# Altium schematic symbol library SparkFun-Sensors.SCHLIB: 77 symbols
Pins are listed as number, name and electrical type; pins without a type are passive.

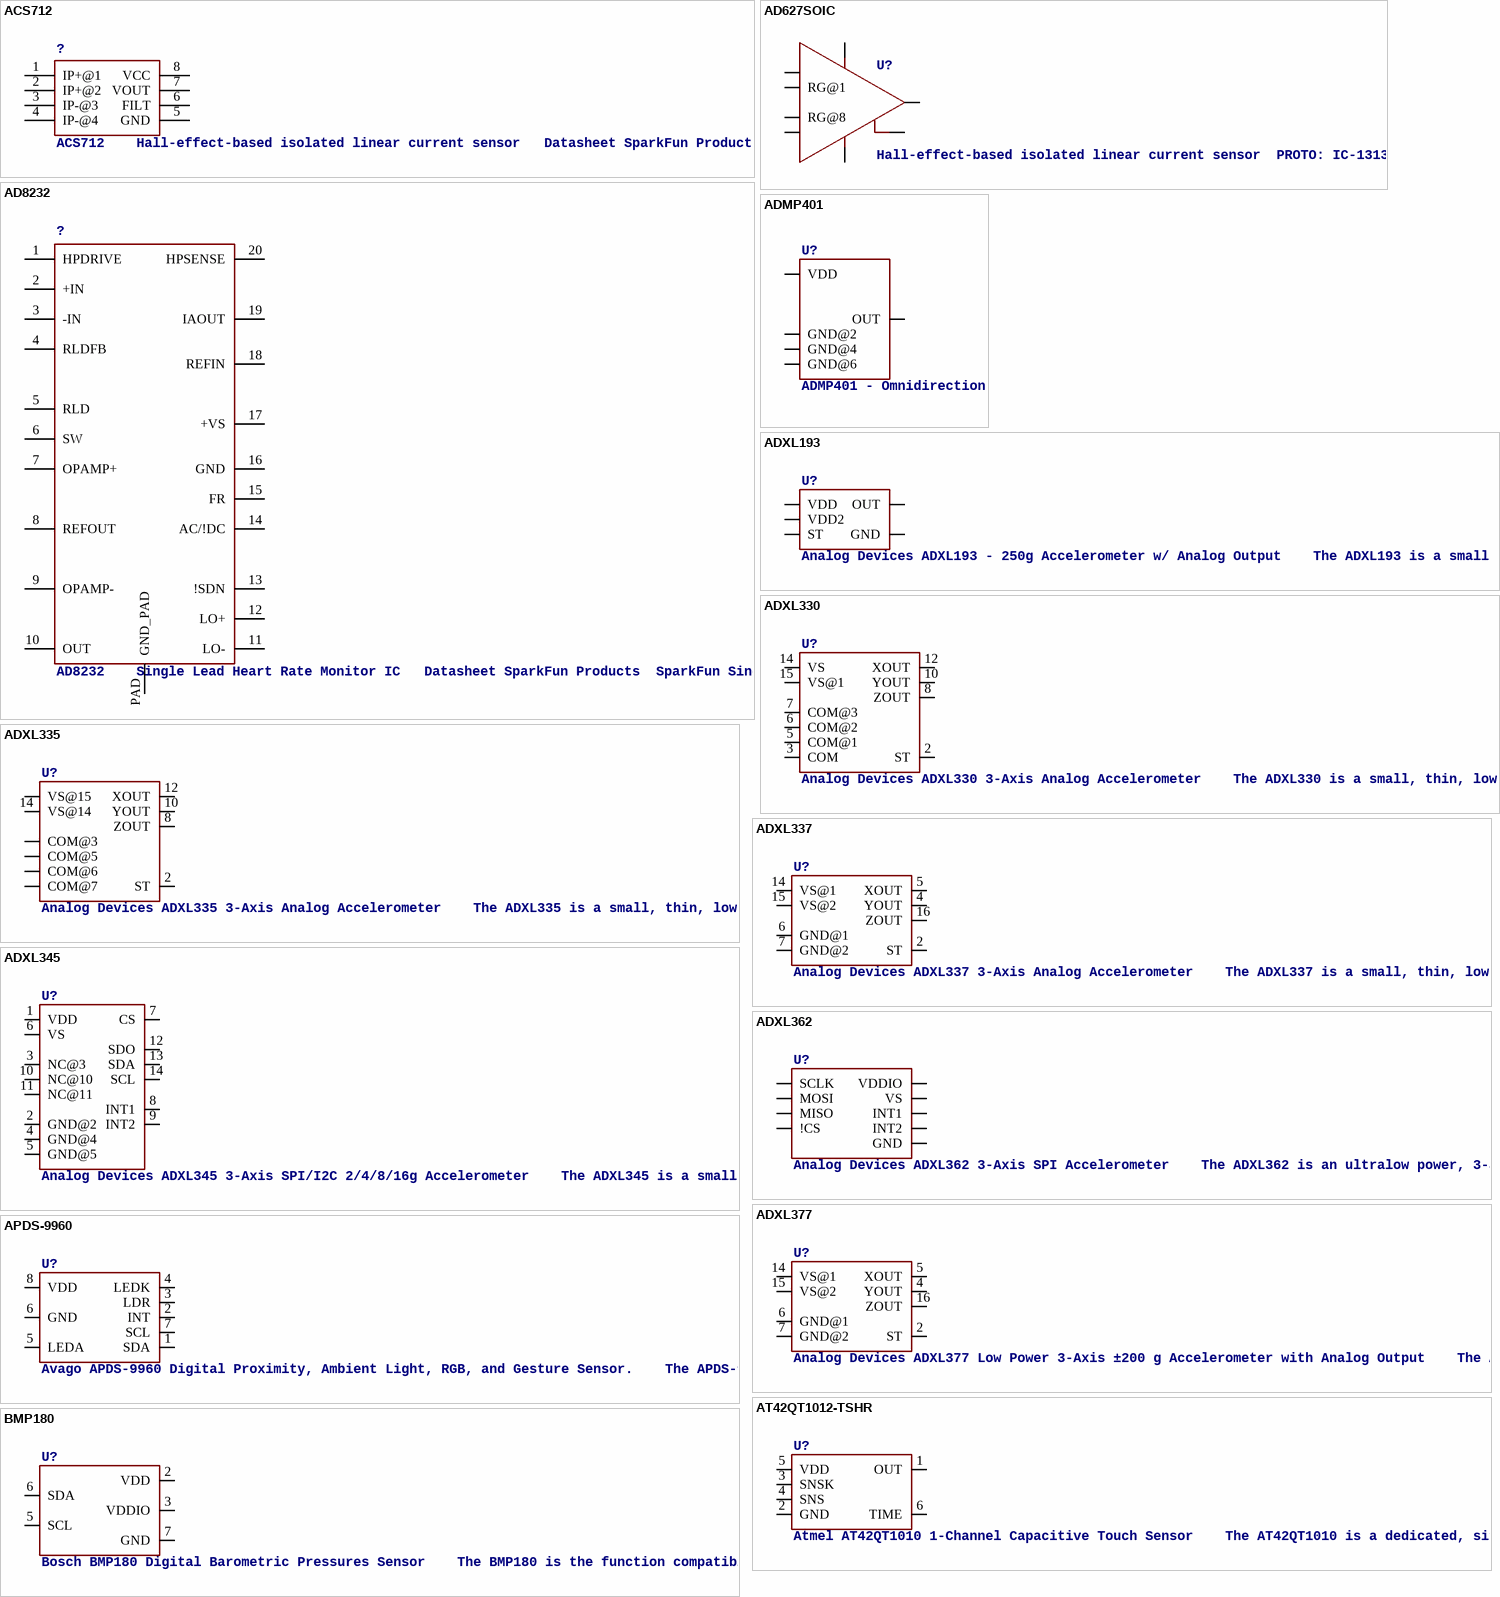
[diagram p0: symbols ACS712 to BMP180]

## ACS712
designator ?, comment ACS712    Hall-effect-based isolated linear current sensor   Datasheet SparkFun Products  SparkFun Low Current Sensor Breakout - ACS712 (SEN-08883)
PROD_ID: IC-08964
footprint SO08
pins: 1 IP+@1, 2 IP+@2, 3 IP-@3, 4 IP-@4, 5 GND, 6 FILT, 7 VOUT, 8 VCC

## AD627SOIC
designator U?, comment Hall-effect-based isolated linear current sensor  PROTO: IC-13132
PROD_ID: IC-13132
footprint SO08-TIGHT
pins: 1 RG@1, 2 IN-, 3 IN+, 4 VS-, 5 REF, 6 OUTPUT, 7 VS+, 8 RG@8

## AD8232
designator ?, comment AD8232    Single Lead Heart Rate Monitor IC   Datasheet SparkFun Products  SparkFun Single Lead Heart Rate Monitor - AD8232 (SEN-12650)
PROD_ID: IC-11886
footprint LFCSP_20
pins: 1 HPDRIVE, 2 +IN, 3 -IN, 4 RLDFB, 5 RLD, 6 SW, 7 OPAMP+, 8 REFOUT, 9 OPAMP-, 10 OUT, 11 LO-, 12 LO+, 13 !SDN, 14 AC/!DC, 15 FR, 16 GND, 17 +VS, 18 REFIN, 19 IAOUT, 20 HPSENSE, PAD GND_PAD

## ADMP401
designator U?, comment ADMP401 - Omnidirection Bottom-Port MEMS Microphone    The ADMP401 is a high quality, low cost, low power analog output bottom-ported omnidirectional MEMS microphone. The ADMP401 consists of a MEMS microphone element, an impedance converter, and an output amplifier. The ADMP401 sensitivity specification makes it an excellent choice for both near field and far field applications.   Datasheet SparkFun Products  SparkFun MEMS Microphone Breakout - INMP401 (ADMP401) (BOB-09868)  MEMS Microphone - INMP401 (ADMP401) (COM-10028)
PROD_ID: IC-09773
footprint ADMP401
pins: 1 OUT, 2 GND@2, 4 GND@4, 5 VDD, 6 GND@6

## ADXL193
designator U?, comment Analog Devices ADXL193 - 250g Accelerometer w/ Analog Output    The ADXL193 is a small (5 mm x 5 mm x 2 mm ceramic LCC package), low power (1.5 mA current at 5V), single axis high-g iMEMS® accelerometer designed to sense shock and vibration at g-ranges of ±120g or ±250g. Three models are available and include AD22282-A-R2 (±120g) and AD22283-B-R2 (±250g). These products are used in a variety of crash/impact detection applications which include automotive airbag crash detection systems as well as medical, industrial, and sports equipment.   Datasheet SparkFun Products    SparkFun Single Axis Accelerometer Breakout - ADXL193 (+/-250g) (SEN-09332)
PROD_ID: IC-09219
footprint LCC-8
pins: P$3 GND, P$4 ST, P$6 OUT, P$7 VDD, P$8 VDD2

## ADXL330
designator U?, comment Analog Devices ADXL330 3-Axis Analog Accelerometer    The ADXL330 is a small, thin, low power, complete 3-axis accelerometer with signal conditioned voltage outputs, all on a single monolithic IC. The product measures acceleration with a minimum full-scale range of ±3g. It can measure the static acceleration of gravity in tilt-sensing applications, as well as dynamic acceleration resulting from motion, shock, or vibration.   Datasheet SparkFun Products  Triple Axis Accelerometer Breakout - ADXL330 (SEN-00692)
PROD_ID: IC-08189
footprint LFCSP-16-4X4
pins: 2 ST, 3 COM, 5 COM@1, 6 COM@2, 7 COM@3, 8 ZOUT, 10 YOUT, 12 XOUT, 14 VS, 15 VS@1

## ADXL335
designator U?, comment Analog Devices ADXL335 3-Axis Analog Accelerometer    The ADXL335 is a small, thin, low power, complete 3-axis accelerometer with signal conditioned voltage outputs. The product measures acceleration with a minimum full-scale range of ±3 g. It can measure the static acceleration of gravity in tiltsensing applications, as well as dynamic acceleration resulting from motion, shock, or vibration.   Datasheet SparkFun Products  SparkFun Triple Axis Accelerometer Breakout - ADXL335 (SEN-09269)  Triple Axis Accelerometer - ADXL335 (SEN-09265)
PROD_ID: IC-08942; SF_ID: COM-09265
footprint LFCSP-16-4X4
pins: 2 ST, 3 COM@3, 5 COM@5, 6 COM@6, 7 COM@7, 8 ZOUT, 10 YOUT, 12 XOUT, 14 VS@14, 15 VS@15

## ADXL337
designator U?, comment Analog Devices ADXL337 3-Axis Analog Accelerometer    The ADXL337 is a small, thin, low power, complete 3-axis accelerometer with signal conditioned voltage outputs. The product measures acceleration with a minimum full-scale range of ±3g. It can measure the static acceleration of gravity in tiltsensing applications, as well as dynamic acceleration resulting from motion, shock, or vibration.   Datasheet SparkFun Products  SparkFun Triple Axis Accelerometer Breakout - ADXL337 (SEN-12786)
PROD_ID: IC-12011
footprint LFCSP-16-3X3
pins: 2 ST, 4 YOUT, 5 XOUT, 6 GND@1, 7 GND@2, 14 VS@1, 15 VS@2, 16 ZOUT

## ADXL345
designator U?, comment Analog Devices ADXL345 3-Axis SPI/I2C 2/4/8/16g Accelerometer    The ADXL345 is a small, thin, low power, 3-axis accelerometer with high resolution (13-bit) measurement at up to ±16g. Digital output data is formatted as 16-bit twos complement and is accessible through either a SPI (3- or 4-wire) or I2C digital interface.   Datasheet SparkFun Products  SparkFun Triple Axis Accelerometer Breakout - ADXL345 (SEN-09836)  Triple Axis Accelerometer - ADXL345 (SEN-09045)  SparkFun 6 Degrees of Freedom IMU Digital Combo Board - ITG3200/ADXL345 (SEN-10121)
PROD_ID: IC-09097; SF_ID: SEN-09045
footprint LGA-14
pins: 1 VDD, 2 GND@2, 3 NC@3, 4 GND@4, 5 GND@5, 6 VS, 7 CS, 8 INT1, 9 INT2, 10 NC@10, 11 NC@11, 12 SDO, 13 SDA, 14 SCL

## ADXL362
designator U?, comment Analog Devices ADXL362 3-Axis SPI Accelerometer    The ADXL362 is an ultralow power, 3-axis MEMS accelerometer that consumes less than 2 μA at a 100 Hz output data rate and 270 nA when in motion triggered wake-up mode. Unlike accelerometers that use power duty cycling to achieve low power consumption, the ADXL362 does not alias input signals by undersampling; it samples the full bandwidth of the sensor at all data rates.   Datasheet SparkFun Products  SparkFun Triple Axis Accelerometer Breakout - ADXL362 (SEN-11446)
PROD_ID: IC-11297
footprint LGA-16-3X2.5
pins: P$1 VDDIO, P$4 SCLK, P$6 MOSI, P$7 MISO, P$8 !CS, P$9 INT2, P$11 INT1, P$12 P$13 P$16 GND, P$14 VS

## ADXL377
designator U?, comment Analog Devices ADXL377 Low Power 3-Axis ±200 g Accelerometer with Analog Output    The ADXL377 is a small, thin, low power, complete 3-axis accelerometer with signal conditioned voltage outputs. The ADXL377 measures acceleration resulting from motion, shock, or vibration with a typical full-scale range of ±200g.   Datasheet SparkFun Products  SparkFun Triple Axis Accelerometer Breakout - ADXL377 (SEN-12803)
PROD_ID: IC-12027
footprint LFCSP-16-3X3
pins: 2 ST, 4 YOUT, 5 XOUT, 6 GND@1, 7 GND@2, 14 VS@1, 15 VS@2, 16 ZOUT

## APDS-9960
designator U?, comment Avago APDS-9960 Digital Proximity, Ambient Light, RGB, and Gesture Sensor.    The APDS-9960 offers ambient light and color measuring, proximity detection, and touchless gesture sensing. It features UV and IR blocking filters, four separate diodes sensitive to different directions, and an I2C compatible interface.   Datasheet SparkFun Products  SparkFun RGB and Gesture Sensor - APDS-9960 (SEN-12787)
PROD_ID: SEN-12005
footprint APDS-9960
pins: 1 SDA, 2 INT, 3 LDR, 4 LEDK, 5 LEDA, 6 GND, 7 SCL, 8 VDD

## AT42QT1012-TSHR
designator U?, comment Atmel AT42QT1010 1-Channel Capacitive Touch Sensor    The AT42QT1010 is a dedicated, single-button capacitive sense chip. The chip handles monitoring a conductive area for touch. As long as a touch (e.g. from a finger) is detected, the AT42QT1010 keeps the output line high. Otherwise, the line is kept low.   Datasheet SparkFun Products  SparkFun Capacitive Touch Breakout - AT42QT1010 (SEN-12041)
PROD_ID: IC-11778
footprint SOT23-6
pins: 1 OUT, 2 GND, 3 SNSK, 4 SNS, 5 VDD, 6 TIME

## BMP180
designator U?, comment Bosch BMP180 Digital Barometric Pressures Sensor    The BMP180 is the function compatible successor of the BMP085, a new generation of high precision digital pressure sensors for consumer applications.   The ultra-low power, low voltage electronics of the BMP180 is optimized for use in mobile phones, PDAs, GPS navigation devices and outdoor equipment. With a low altitude noise of merely 0.25m at fast conversion time, the BMP180 offers superior performance. The I2C interface allows for easy system integration with a microcontroller. The BMP180 is based on piezo-resistive technology for EMC robustness, high accuracy and linearity as well as long term stability.   Web page: http://www.bosch-sensortec.com/en/homepage/products_3/environmental_sensors_1/bmp180_1/bmp180 Datasheet:  http://ae-bst.resource.bosch.com/media/products/dokumente/bmp180/BST-BMP180-DS000-09.pdf SparkFun Products  Barometric Pressure Sensor - BMP180 (COM-11823)  SparkFun Barometric Pressure Sensor Breakout - BMP180 (SEN-11824)
PROD_ID: IC-11600; SF_ID: 11823
footprint BMP180
pins: 2 VDD (power), 3 VDDIO (power), 5 SCL, 6 SDA, 7 GND (power)

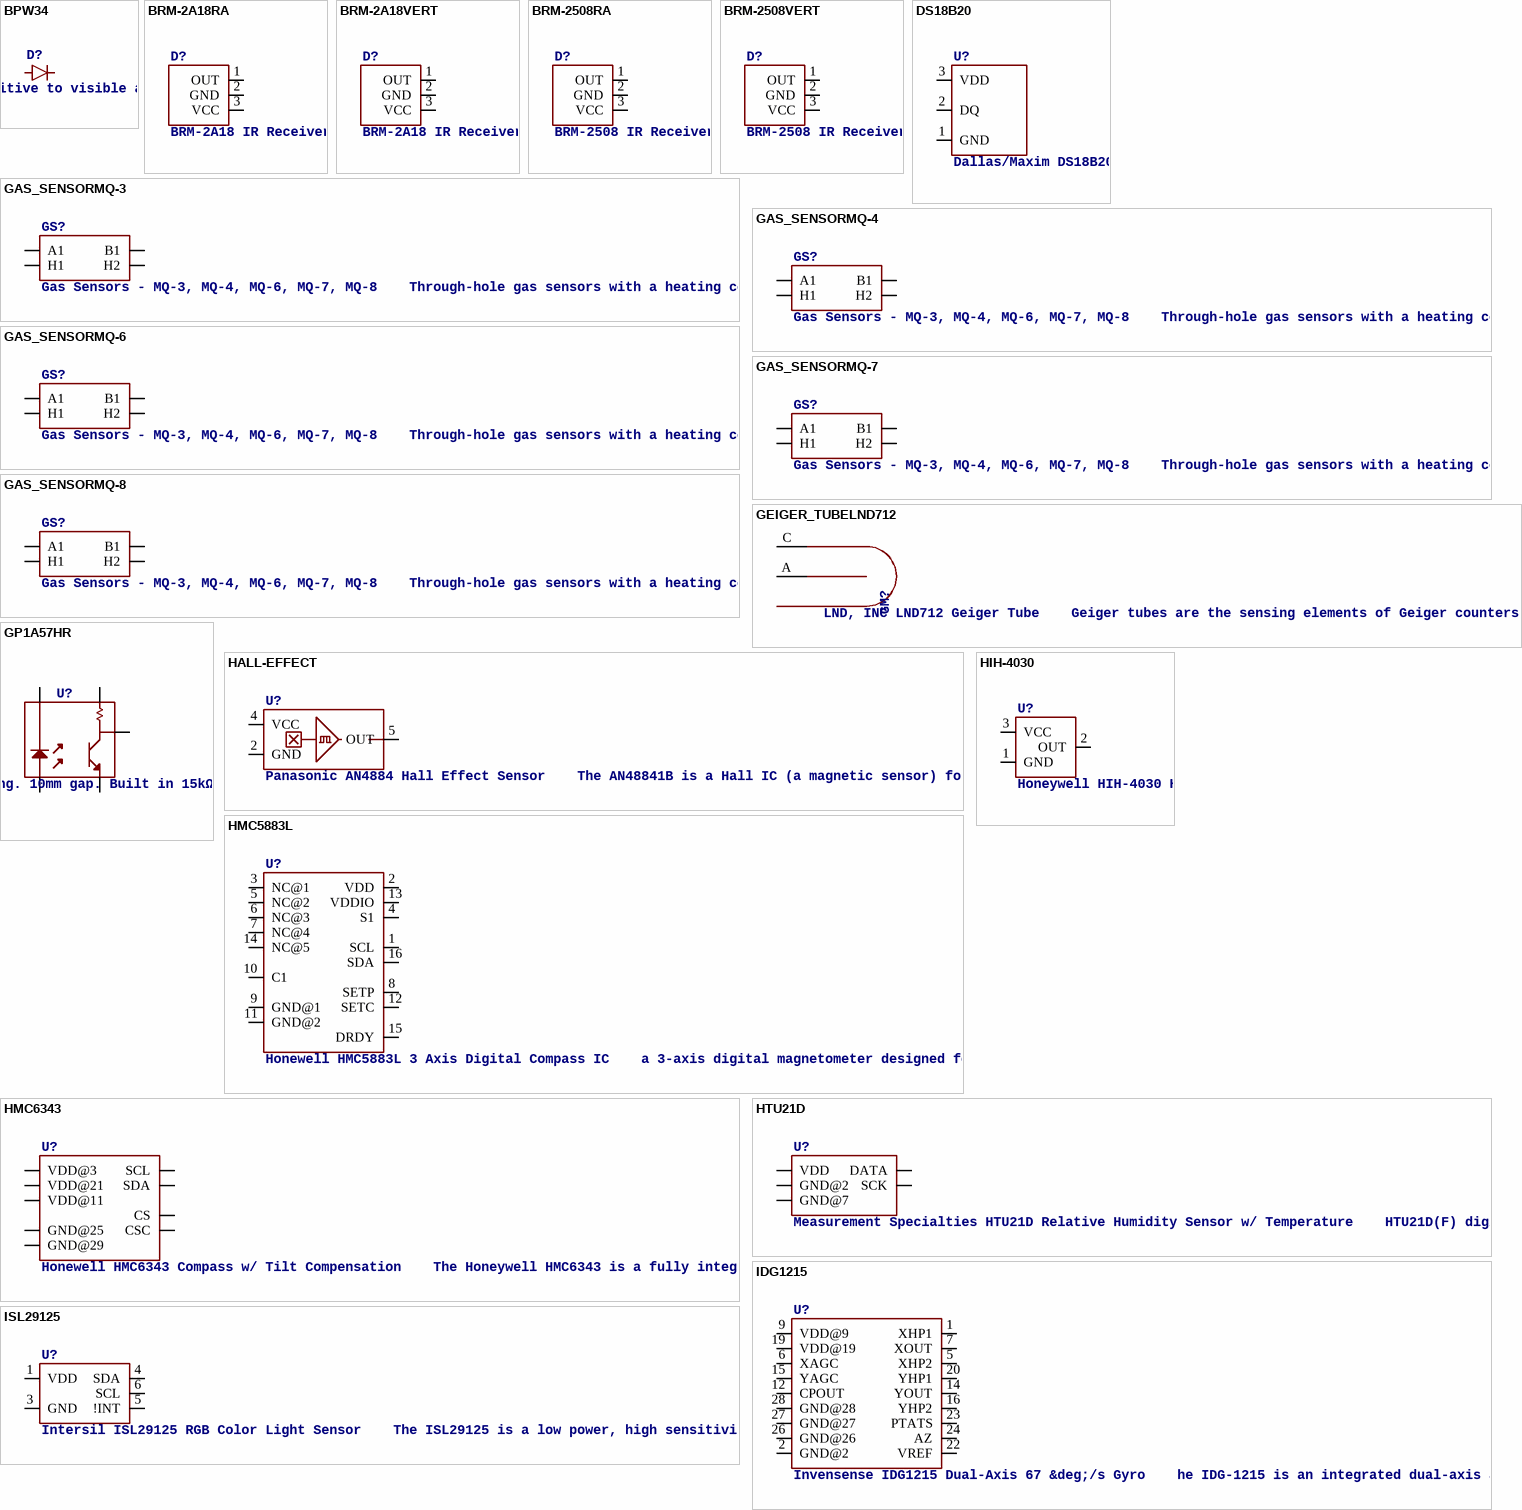
[diagram p1: symbols BPW34 to ISL29125]

## BPW34
designator D?, comment Vishay BPW34 Silicon PIN Photodiode (Miniature Solar Cell)    BPW34 is a PIN photodiode with high speed and high radiant sensitivity in miniature, flat, top view, clear plastic package. It is sensitive to visible and near infrared radiation. BPW34S is packed in tubes, specifications like BPW34.   Datasheet: https://www.sparkfun.com/datasheets/Prototyping/Solar/bpw34.pdf SparkFun Products  Miniature Solar Cell - BPW34 (PRT-09541)
SF_ID: PRT-09541
footprint BPW34
pins: P$1 A, P$2 C

## BRM-2A18RA
designator D?, comment BRM-2A18 IR Receiver    The BRM-2A18 is miniaturized infrared receiver for remote control and other applications requiring improved ambient light rejection.    Vertical package is a primary component on the ZX Distance and Gesture Sensor. RA package is not currently in-use.   Example Datasheet SparkFun Products  ZX Distance and Gesture Sensor (COM-12780)
footprint BRM-2508
pins: 1 OUT, 2 GND, 3 VCC

## BRM-2A18VERT
designator D?, comment BRM-2A18 IR Receiver    The BRM-2A18 is miniaturized infrared receiver for remote control and other applications requiring improved ambient light rejection.    Vertical package is a primary component on the ZX Distance and Gesture Sensor. RA package is not currently in-use.   Example Datasheet SparkFun Products  ZX Distance and Gesture Sensor (COM-12780)
PROD_ID: COMP-12505
footprint BRM-2508_VERT
pins: 1 OUT, 2 GND, 3 VCC

## BRM-2508RA
designator D?, comment BRM-2508 IR Receiver Module     2.7V/5.5V IR Receiver with Low Power Consumption, High-immunity Against Ambient Light.   Example Datasheet
PROD_ID: COMP-12059
footprint BRM-2508
pins: 1 OUT, 2 GND, 3 VCC

## BRM-2508VERT
designator D?, comment BRM-2508 IR Receiver Module     2.7V/5.5V IR Receiver with Low Power Consumption, High-immunity Against Ambient Light.   Example Datasheet
PROD_ID: COMP-12059
footprint BRM-2508_VERT
pins: 1 OUT, 2 GND, 3 VCC

## DS18B20
designator U?, comment Dallas/Maxim DS18B20 1-Wire Temperature Sensor    The DS18B20 reports degrees C with 9 to 12-bit precision, -55C to 125C (+/-0.5C). Each sensor has a unique 64-Bit Serial number etched into it - allows for a huge number of sensors to be used on one data bus.   Datasheet SparkFun Products  One Wire Digital Temperature Sensor - DS18B20 (SEN-00245)
STORE_ID: SEN-00245
footprint TO-92-AMMO
pins: 1 GND (power), 2 DQ, 3 VDD (power)

## GAS_SENSORMQ-3
designator GS?, comment Gas Sensors - MQ-3, MQ-4, MQ-6, MQ-7, MQ-8    Through-hole gas sensors with a heating coil and an analog output.   Example Datasheet SparkFun Products  Gas Sensor Breakout Board (BOB-8891) - Breakout board compatible with all gas sensors.  Alcohol Gas Sensor - MQ-3 (SEN-08880)  Methane CNG Gas Sensor - MQ-4 (SEN-09404)  LPG Gas Sensor - MQ-6 (SEN-09405)  Carbon Monoxide Sensor - MQ-7 (SEN-09403)  Hydrogen Gas Sensor - MQ-8 (SEN-10916)
PROD_ID: COMP-12216; SF_ID: SEN-08880
footprint GAS_SENSOR
pins: A1, B1, HA H1, HB H2

## GAS_SENSORMQ-4
designator GS?, comment Gas Sensors - MQ-3, MQ-4, MQ-6, MQ-7, MQ-8    Through-hole gas sensors with a heating coil and an analog output.   Example Datasheet SparkFun Products  Gas Sensor Breakout Board (BOB-8891) - Breakout board compatible with all gas sensors.  Alcohol Gas Sensor - MQ-3 (SEN-08880)  Methane CNG Gas Sensor - MQ-4 (SEN-09404)  LPG Gas Sensor - MQ-6 (SEN-09405)  Carbon Monoxide Sensor - MQ-7 (SEN-09403)  Hydrogen Gas Sensor - MQ-8 (SEN-10916)
PROD_ID: COMP-11559; SF_ID: SEN-09404
footprint GAS_SENSOR
pins: A1, B1, HA H1, HB H2

## GAS_SENSORMQ-6
designator GS?, comment Gas Sensors - MQ-3, MQ-4, MQ-6, MQ-7, MQ-8    Through-hole gas sensors with a heating coil and an analog output.   Example Datasheet SparkFun Products  Gas Sensor Breakout Board (BOB-8891) - Breakout board compatible with all gas sensors.  Alcohol Gas Sensor - MQ-3 (SEN-08880)  Methane CNG Gas Sensor - MQ-4 (SEN-09404)  LPG Gas Sensor - MQ-6 (SEN-09405)  Carbon Monoxide Sensor - MQ-7 (SEN-09403)  Hydrogen Gas Sensor - MQ-8 (SEN-10916)
SF_ID: SEN-09405
footprint GAS_SENSOR
pins: A1, B1, HA H1, HB H2

## GAS_SENSORMQ-7
designator GS?, comment Gas Sensors - MQ-3, MQ-4, MQ-6, MQ-7, MQ-8    Through-hole gas sensors with a heating coil and an analog output.   Example Datasheet SparkFun Products  Gas Sensor Breakout Board (BOB-8891) - Breakout board compatible with all gas sensors.  Alcohol Gas Sensor - MQ-3 (SEN-08880)  Methane CNG Gas Sensor - MQ-4 (SEN-09404)  LPG Gas Sensor - MQ-6 (SEN-09405)  Carbon Monoxide Sensor - MQ-7 (SEN-09403)  Hydrogen Gas Sensor - MQ-8 (SEN-10916)
PROD_ID: COMP-12214; SF_ID: SEN-09403
footprint GAS_SENSOR
pins: A1, B1, HA H1, HB H2

## GAS_SENSORMQ-8
designator GS?, comment Gas Sensors - MQ-3, MQ-4, MQ-6, MQ-7, MQ-8    Through-hole gas sensors with a heating coil and an analog output.   Example Datasheet SparkFun Products  Gas Sensor Breakout Board (BOB-8891) - Breakout board compatible with all gas sensors.  Alcohol Gas Sensor - MQ-3 (SEN-08880)  Methane CNG Gas Sensor - MQ-4 (SEN-09404)  LPG Gas Sensor - MQ-6 (SEN-09405)  Carbon Monoxide Sensor - MQ-7 (SEN-09403)  Hydrogen Gas Sensor - MQ-8 (SEN-10916)
PROD_ID: COMP-13351; SF_ID: SEN-10916
footprint GAS_SENSOR
pins: A1, B1, HA H1, HB H2

## GEIGER_TUBELND712
designator GM?, comment LND, INC LND712 Geiger Tube    Geiger tubes are the sensing elements of Geiger counters, which are used to measure ionizing radiation. This tube is made of a thin-walled stainless steel and is filled with a mixture of Neon and Halogen gases at low-pressure.   Datasheet SparkFun Products  Geiger Tube (COM-08875)  SparkFun Geiger Counter (SEN-11345)
PROD_ID: COMP-09328; SF_ID: SEN-11345
footprint GEIGER_TUBE
pins: A, C

## GP1A57HR
designator U?, comment Sharp GP1A57HR Transmissive Photointerrupter    Standard, OPIC output, transmissive photointerrupter with opposing emitter and detector in a case, providing non-contact sensing. 10mm gap. Built in 15kΩ pull-up resistor.   Datasheet SparkFun Products  Photo Interrupter - GP1A57HRJ00F (SEN-09299)  SparkFun Photo Interrupter Breakout Board - GP1A57HRJ00F (BOB-09322) - Breakout board for above.
SF_ID: SEN-09299
footprint GP1A57HR
pins: 1, 2, 3, 4, 5

## HALL-EFFECT
designator U?, comment Panasonic AN4884 Hall Effect Sensor    The AN48841B is a Hall IC (a magnetic sensor) for 3.0 V supply voltage built using Bi-CMOS technology. In this Hall IC are a Hall element, an offset cancel circuit, an amplifier circuit, a sample-and-hold circuit, a Schmidt circuit, and an output stage FET are integrated on a single chip housed in a small SC70 package.   Datasheet SparkFun Products  SparkFun Blackberry Trackballer Breakout (COM-13169) - Hall sensor is triggered by tiny magnets on trackball.
PROD_ID: IC-09214
footprint SC70
pins: 2 GND, 4 VCC, 5 OUT

## HIH-4030
designator U?, comment Honeywell HIH-4030 Humidity Sensor - Analog Output    The HIH-4030/4031 Series delivers instrumentation-quality RH (Relative Humidity) sensing performance in a competitively priced, solderable SMD.   Datasheet SparkFun Products  SparkFun Humidity Sensor Breakout - HIH-4030 (SEN-09569)
PROD_ID: IC-09448
footprint HIH-4030
pins: 1 GND, 2 OUT, 3 VCC

## HMC5883L
designator U?, comment Honewell HMC5883L 3 Axis Digital Compass IC    a 3-axis digital magnetometer designed for low-field magnetic sensing. The sensor has a full-scale range of ±8 Guass and a resolution of up to 5 milli-Gauss.   Supplied voltage should be between 2.16 and 3.6VDC.   Communication with the HMC5883L is simple and all done through an I2C interface. All registers and operating modes are well described in the datasheet below.   Datasheet SparkFun Products  Magnetometer Digital Triple Axis - HMC5883L (COM-10494)  SparkFun Triple Axis Magnetometer Breakout - HMC5883L (SEN-10530)  9 Degrees of Freedom - Razor IMU (SEN-10736)  SparkFun 9 Degrees of Freedom - Sensor Stick (SEN-10724)
PROD_ID: IC-10284; SF_ID: COM-10494
footprint LPCC-16
pins: 1 SCL, 2 VDD, 3 NC@1, 4 S1, 5 NC@2, 6 NC@3, 7 NC@4, 8 SETP, 9 GND@1, 10 C1, 11 GND@2, 12 SETC, 13 VDDIO, 14 NC@5, 15 DRDY, 16 SDA

## HMC6343
designator U?, comment Honewell HMC6343 Compass w/ Tilt Compensation    The Honeywell HMC6343 is a fully integrated compass module that includes firmware  for  heading  computation and  calibration  for  magnetic  distortions.  The module combines three-axis magneto-resistive sensor, three-axis MEMS accelerometer,   analog   and   digital   support   circuits,   microprocessor and algorithms required for  heading  computation   Datasheet SparkFun Products  SparkFun HMC6343 Breakout  (SEN-12916)
PROD_ID: IC-12117
footprint LCC-36
pins: 3 VDD@3, 11 VDD@11, 21 VDD@21, 22 CS, 25 GND@25, 29 GND@29, 32 SCL, 35 CSC, 36 SDA

## HTU21D
designator U?, comment Measurement Specialties HTU21D Relative Humidity Sensor w/ Temperature    HTU21D(F) digital humidity sensors are dedicated humidity and temperature plug and play transducers for OEM applications  where  reliable  and  accurate  measurements  are  needed.  Direct  interface  with  a  micro-controller  is made  possible  with  the  module for humidity  and  temperature  digital  outputs. These  low  power sensors are designed for high volume and cost sensitive applications with tight space constraints.    Datasheet SparkFun Products  SparkFun Humidity and Temperature Sensor Breakout - HTU21D (SEN-12064)  SparkFun Weather Shield (SEN-12081)  SparkFun Photon Weather Shield (SEN-13630)
PROD_ID: IC-11793
footprint DFN-6-3X3-HTU21D
pins: 7 GND@7 (power), DATA, GND GND@2 (power), SCK, VDD (power)

## IDG1215
designator U?, comment Invensense IDG1215 Dual-Axis 67 &deg;/s Gyro    he IDG-1215 is an integrated dual-axis angular rate sensor (gyroscope). It uses InvenSense’s proprietary and patented MEMS technology with vertically driven, vibrating masses to make a functionally complete, low-cost, dual-axis angular rate sensor. All required electronics are integrated onto a single chip with the sensor.   Datasheet SparkFun Products  Dual Axis Gyro - IDG1215 (COM-09071)  Gyro Breakout Board - IDG1215 Dual 67°/s (SEN-09093)
PROD_ID: IC-09061; SF_ID: COM-09071
footprint QFN-28
pins: 1 XHP1, 2 GND@2, 5 XHP2, 6 XAGC, 7 XOUT, 9 VDD@9, 12 CPOUT, 14 YOUT, 15 YAGC, 16 YHP2, 19 VDD@19, 20 YHP1, 22 VREF, 23 PTATS, 24 AZ, 26 GND@26, 27 GND@27, 28 GND@28

## ISL29125
designator U?, comment Intersil ISL29125 RGB Color Light Sensor    The ISL29125 is a low power, high sensitivity, RED, GREEN and BLUE color light sensor (RGB) with an I2C (SMBus compatible) interface. Its state-of-the-art photodiode array provides an accurate RGB spectral response and excellent light source to light source variation (LS2LS).   Datasheet SparkFun Products  SparkFun RGB Light Sensor - ISL29125 (SEN-12829)
PROD_ID: IC-12055
footprint ODFN-6
pins: 1 VDD, 3 GND, 4 SDA, 5 !INT, 6 SCL

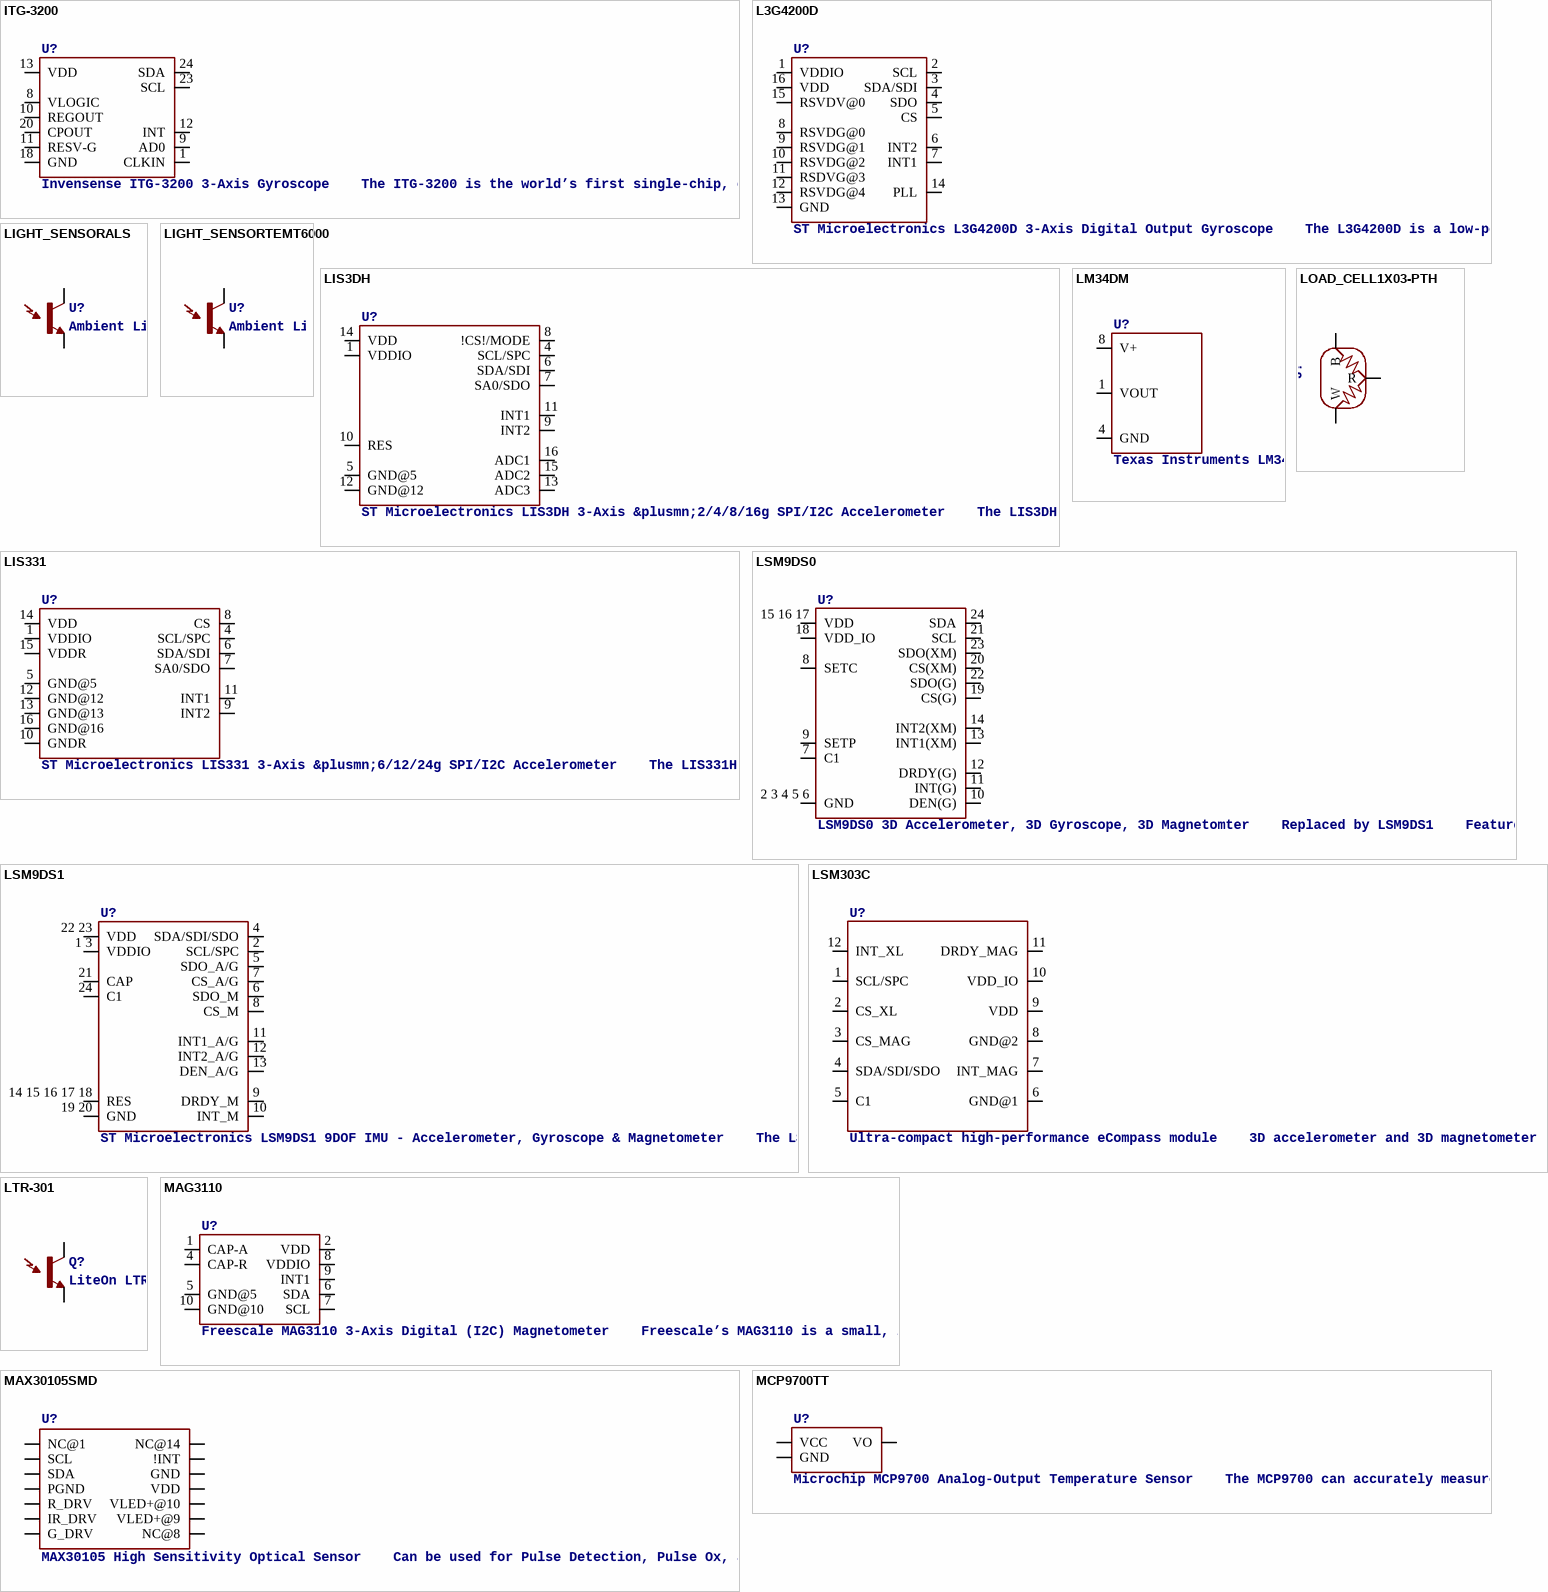
[diagram p2: symbols ITG-3200 to MCP9700TT]

## ITG-3200
designator U?, comment Invensense ITG-3200 3-Axis Gyroscope    The ITG-3200 is the world’s first single-chip, digital-output, 3-axis MEMS motion processing gyro optimized for gaming, 3D mice, and motion-based remote control applications for Internet connected Digital TVs and Set Top Boxes. The ITG-3200 features three 16-bit analog-to-digital converters (ADCs) for digitizing the gyro outputs, a user-selectable internal low-pass filter bandwidth, and a Fast-Mode I²C (400kHz) interface. Additional features include an embedded temperature sensor and a 2% accurate internal oscillator. This breakthrough in MEMS motion processing gyro technology provides a dramatic 60% package size reduction, delivers a 60% power reduction, and has inherent cost advantages compared to competing multi-chip gyro solutions.   Datasheet SparkFun Products  Triple-Axis Digital-Output Gyroscope - ITG-3200 (SEN-09793)  SparkFun Triple-Axis Digital-Output Gyro Breakout - ITG-3200 (SEN-11977)  SparkFun 9 Degrees of Freedom - Sensor Stick (SEN-10724)  SparkFun 6 Degrees of Freedom IMU Digital Combo Board - ITG3200/ADXL345 (SEN-10121)  9 Degrees of Freedom - Razor IMU (SEN-10736)
PROD_ID: IC-09685; SF_ID: SEN-09793
footprint QFN-24
pins: 1 CLKIN, 8 VLOGIC, 9 AD0, 10 REGOUT, 11 RESV-G, 12 INT, 13 VDD, 18 GND, 20 CPOUT, 23 SCL, 24 SDA

## L3G4200D
designator U?, comment ST Microelectronics L3G4200D 3-Axis Digital Output Gyroscope    The L3G4200D is a low-power three-axis angular rate sensor, has a full scale of ±250/±500/±2000 dps and is capable of measuring rates with a user-selectable bandwidth.  It includes a sensing element and an IC interface capable of providing the measured angular rate to the external world through a digital interface (I2C/SPI).   Datasheet SparkFun Products  SparkFun Tri-Axis Gyro Breakout - L3G4200D (SEN-10612)
PROD_ID: IC-10395
footprint LGA-16-4X4
pins: 1 VDDIO, 2 SCL, 3 SDA/SDI, 4 SDO, 5 CS, 6 INT2, 7 INT1, 8 RSVDG@0, 9 RSVDG@1, 10 RSVDG@2, 11 RSDVG@3, 12 RSVDG@4, 13 GND, 14 PLL, 15 RSVDV@0, 16 VDD

## LIGHT_SENSORALS
designator U?, comment Ambient Light Sensors - Phototransistors    Low cost ambient light sensors, consisting of a phototransistor in miniature SMD packages. Output voltage varies with light intensity. SparkFun Products  ALS-PT19 Light Sensor (SEN-12566)  Ambient Light Sensor - TEMT6000 (SEN-08348)  SparkFun Ambient Light Sensor Breakout - TEMT60000 (SEN-08688)
PROD_ID: IC-11836; SF_ID: SEN-12566
footprint ALS-PT19
pins: C C1, E E1

## LIGHT_SENSORTEMT6000
designator U?, comment Ambient Light Sensors - Phototransistors    Low cost ambient light sensors, consisting of a phototransistor in miniature SMD packages. Output voltage varies with light intensity. SparkFun Products  ALS-PT19 Light Sensor (SEN-12566)  Ambient Light Sensor - TEMT6000 (SEN-08348)  SparkFun Ambient Light Sensor Breakout - TEMT60000 (SEN-08688)
PROD_ID: COMP-08569; SF_ID: COM-08348
footprint TEMT6000
pins: COLLECTOR C1, EMITTER E1

## LIS3DH
designator U?, comment ST Microelectronics LIS3DH 3-Axis &plusmn;2/4/8/16g SPI/I2C Accelerometer    The LIS3DH is a three axis MEMS linear accelerometer in the "nano" family. It has a digital I2C/SPI serial interface which makes it ideal for using in embedded applications. The device also features ultra low-power operational modes that allow advanced power saving and smart sleep to wake-up functions, built in detections with interrupts, and auxiliary ADC inputs   Datasheet-XXXX SparkFun Products  SparkFun Triple Axis Accelerometer Breakout - LIS3DH (SEN-XXXXX)  Triple Axis Accelerometer - LIS3DH (SEN-XXXXX)
PROD_ID: IC-13419; SF_ID: N/A
footprint LGA-16-3X3
pins: 1 VDDIO, 4 SCL/SPC, 5 GND@5, 6 SDA/SDI, 7 SA0/SDO, 8 !CS!/MODE, 9 INT2, 10 RES, 11 INT1, 12 GND@12, 13 ADC3, 14 VDD, 15 ADC2, 16 ADC1

## LIS331
designator U?, comment ST Microelectronics LIS331 3-Axis &plusmn;6/12/24g SPI/I2C Accelerometer    The LIS331HH is an ultra low-power full-scale three axis MEMS linear accelerometer. It has a digital I2C/SPI serial interface which makes it ideal for using in embedded applications. The device also features ultra low-power operational modes that allow advanced power saving and smart sleep to wake-up functions.   Datasheet SparkFun Products  SparkFun Triple Axis Accelerometer Breakout - LIS331 (SEN-10345)  Triple Axis Accelerometer - LIS331HH (SEN-09755)
PROD_ID: IC-12675; SF_ID: COM-09755
footprint LGA-16-3X3
pins: 1 VDDIO, 4 SCL/SPC, 5 GND@5, 6 SDA/SDI, 7 SA0/SDO, 8 CS, 9 INT2, 10 GNDR, 11 INT1, 12 GND@12, 13 GND@13, 14 VDD, 15 VDDR, 16 GND@16

## LM34DM
designator U?, comment Texas Instruments LM34 - Precision Fahrenheit Temperature Sensor    10mV/degF, 1 degF accurate analog temp sensor   Datasheet
PROD_ID: IC-08232
footprint SOIC-8
pins: 1 VOUT, 4 GND, 8 V+

## LOAD_CELL1X03-PTH
designator J?, comment Load Cell - Half-Wheatstone Bridge    Load cell weight sensors commonly found in scales. 3- pin, half-wheatstone bridge configuration.   Datasheet SparkFun Products  Load Sensor - 50kg (SEN-10245)
SF_ID: SEN-10245
footprint 1X03
pins: 1 B, 2 W, 3 R

## LSM9DS0
designator U?, comment LSM9DS0 3D Accelerometer, 3D Gyroscope, 3D Magnetomter    Replaced by LSM9DS1    Features:  3 acceleration channels, 3 angular rate channels, 3 magnetic field channels  ±2/±4/±6/±8/±16 g linear acceleration full scale  ±2/±4/±8/±12 gauss magnetic full scale   ±245/±500/±2000 dps angular rate full scale   16-bit data output   SPI / I2C serial interfaces   Analog supply voltage 2.4 V to 3.6 V   Power-down mode / low-power mode   Programmable interrupt generators   Embedded self-test   Embedded temperature sensor   Embedded FIFO   Position and motion detection functions   Click/double-click recognition       Datasheet SparkFun Products  SparkFun Block for Intel® Edison - 9 Degrees of Freedom (DEV-13033)
PROD_ID: IC-11867
footprint LGA-24
pins: 2 3 4 5 6 GND, 7 C1, 8 SETC, 9 SETP, 10 DEN(G), 11 INT(G), 12 DRDY(G), 13 INT1(XM), 14 INT2(XM), 15 16 17 VDD, 18 VDD_IO, 19 CS(G), 20 CS(XM), 21 SCL, 22 SDO(G), 23 SDO(XM), 24 SDA

## LSM9DS1
designator U?, comment ST Microelectronics LSM9DS1 9DOF IMU - Accelerometer, Gyroscope & Magnetometer    The LSM9DS1 is a versatile, motion-sensing system-in-a-chip. It houses a 3-axis accelerometer, 3-axis gyroscope, and 3-axis magnetometer – nine degrees of freedom (9DOF) in a single IC! The LSM9DS1 is equipped with a digital interface, but even that is flexible: it supports both I2C and SPI, so you’ll be hard-pressed to find a microcontroller it doesn’t work with.   Datasheet SparkFun Products  SparkFun 9 Degrees of Freedom IMU Breakout - LSM9DS1 (SEN-13284)  SparkFun Photon IMU Shield (DEV-13629)
PROD_ID: IC-12536
footprint LGA-24-3.5X3
pins: 1 3 VDDIO, 2 SCL/SPC, 4 SDA/SDI/SDO, 5 SDO_A/G, 6 SDO_M, 7 CS_A/G, 8 CS_M, 9 DRDY_M, 10 INT_M, 11 INT1_A/G, 12 INT2_A/G, 13 DEN_A/G, 14 15 16 17 18 RES, 19 20 GND, 21 CAP, 22 23 VDD, 24 C1

## LSM303C
designator U?, comment Ultra-compact high-performance eCompass module    3D accelerometer and 3D magnetometer      Datasheet SparkFun Products  SparkFun 6 Degrees of Freedom Breakout - LSM303C (BOB-13303)
PROD_ID: IC-12557
footprint LGA-12
pins: 1 SCL/SPC, 2 CS_XL, 3 CS_MAG, 4 SDA/SDI/SDO, 5 C1, 6 GND@1, 7 INT_MAG, 8 GND@2, 9 VDD, 10 VDD_IO, 11 DRDY_MAG, 12 INT_XL

## LTR-301
designator Q?, comment LiteOn LTR-301 IR Phototransistor (Side-Receiving)    Side-looking Infrared detectors. These simple devices operate at 940nm and work well for generic IR systems including remote control and touch-less object sensing. Using a simple ADC on any microcontroller will allow variable readings to be collected from the detector.   Datasheet SparkFun Products  Infrared Emitters and Detectors (SEN-00241)
PROD_ID: DIO-10904; SF_ID: SEN-00241
footprint LTR-301
pins: C C1, E E1

## MAG3110
designator U?, comment Freescale MAG3110 3-Axis Digital (I2C) Magnetometer    Freescale’s MAG3110 is a small, low-power, digital 3-axis magnetometer. The device can be used in conjunction with a 3-axis accelerometer to produce orientation independent accurate compass heading information. It features a standard I2C serial interface output and smart embedded functions.   Datasheet SparkFun Products  SparkFun Triple Axis Magnetometer Breakout - MAG3110 (SEN-12670)
PROD_ID: IC-10404
footprint DFN-10
pins: 1 CAP-A, 2 VDD, 4 CAP-R, 5 GND@5, 6 SDA, 7 SCL, 8 VDDIO, 9 INT1, 10 GND@10

## MAX30105SMD
designator U?, comment MAX30105 High Sensitivity Optical Sensor    Can be used for Pulse Detection, Pulse Ox, and possible visual particle detection. I2C communication.  Datasheet    SparkFun Products: SparkFun Particle Sensor Breakout - MAX30105
PROD_ID: IC-13510
footprint OLGA-14
pins: 1 NC@1, 2 SCL, 3 SDA, 4 PGND, 5 R_DRV, 6 IR_DRV, 7 G_DRV, 8 NC@8, 9 VLED+@9, 10 VLED+@10, 11 VDD, 12 GND, 13 !INT, 14 NC@14

## MCP9700TT
designator U?, comment Microchip MCP9700 Analog-Output Temperature Sensor    The MCP9700 can accurately measure temperature from -40C to +150C. The output of the MCP9700 is calibrated to a slope of 10mV/°C and has a DC offset of 500mV. The offset allows reading negative temperatures without the need for a negative supply.    Datasheet SparkFun Products  LilyPad Temperature Sensor (DEV-08777)  SparkFun Digital Sandbox (DEV-12651)
PROD_ID: IC-08917
footprint SOT23-3
pins: 1 VCC, 2 VO, 3 GND

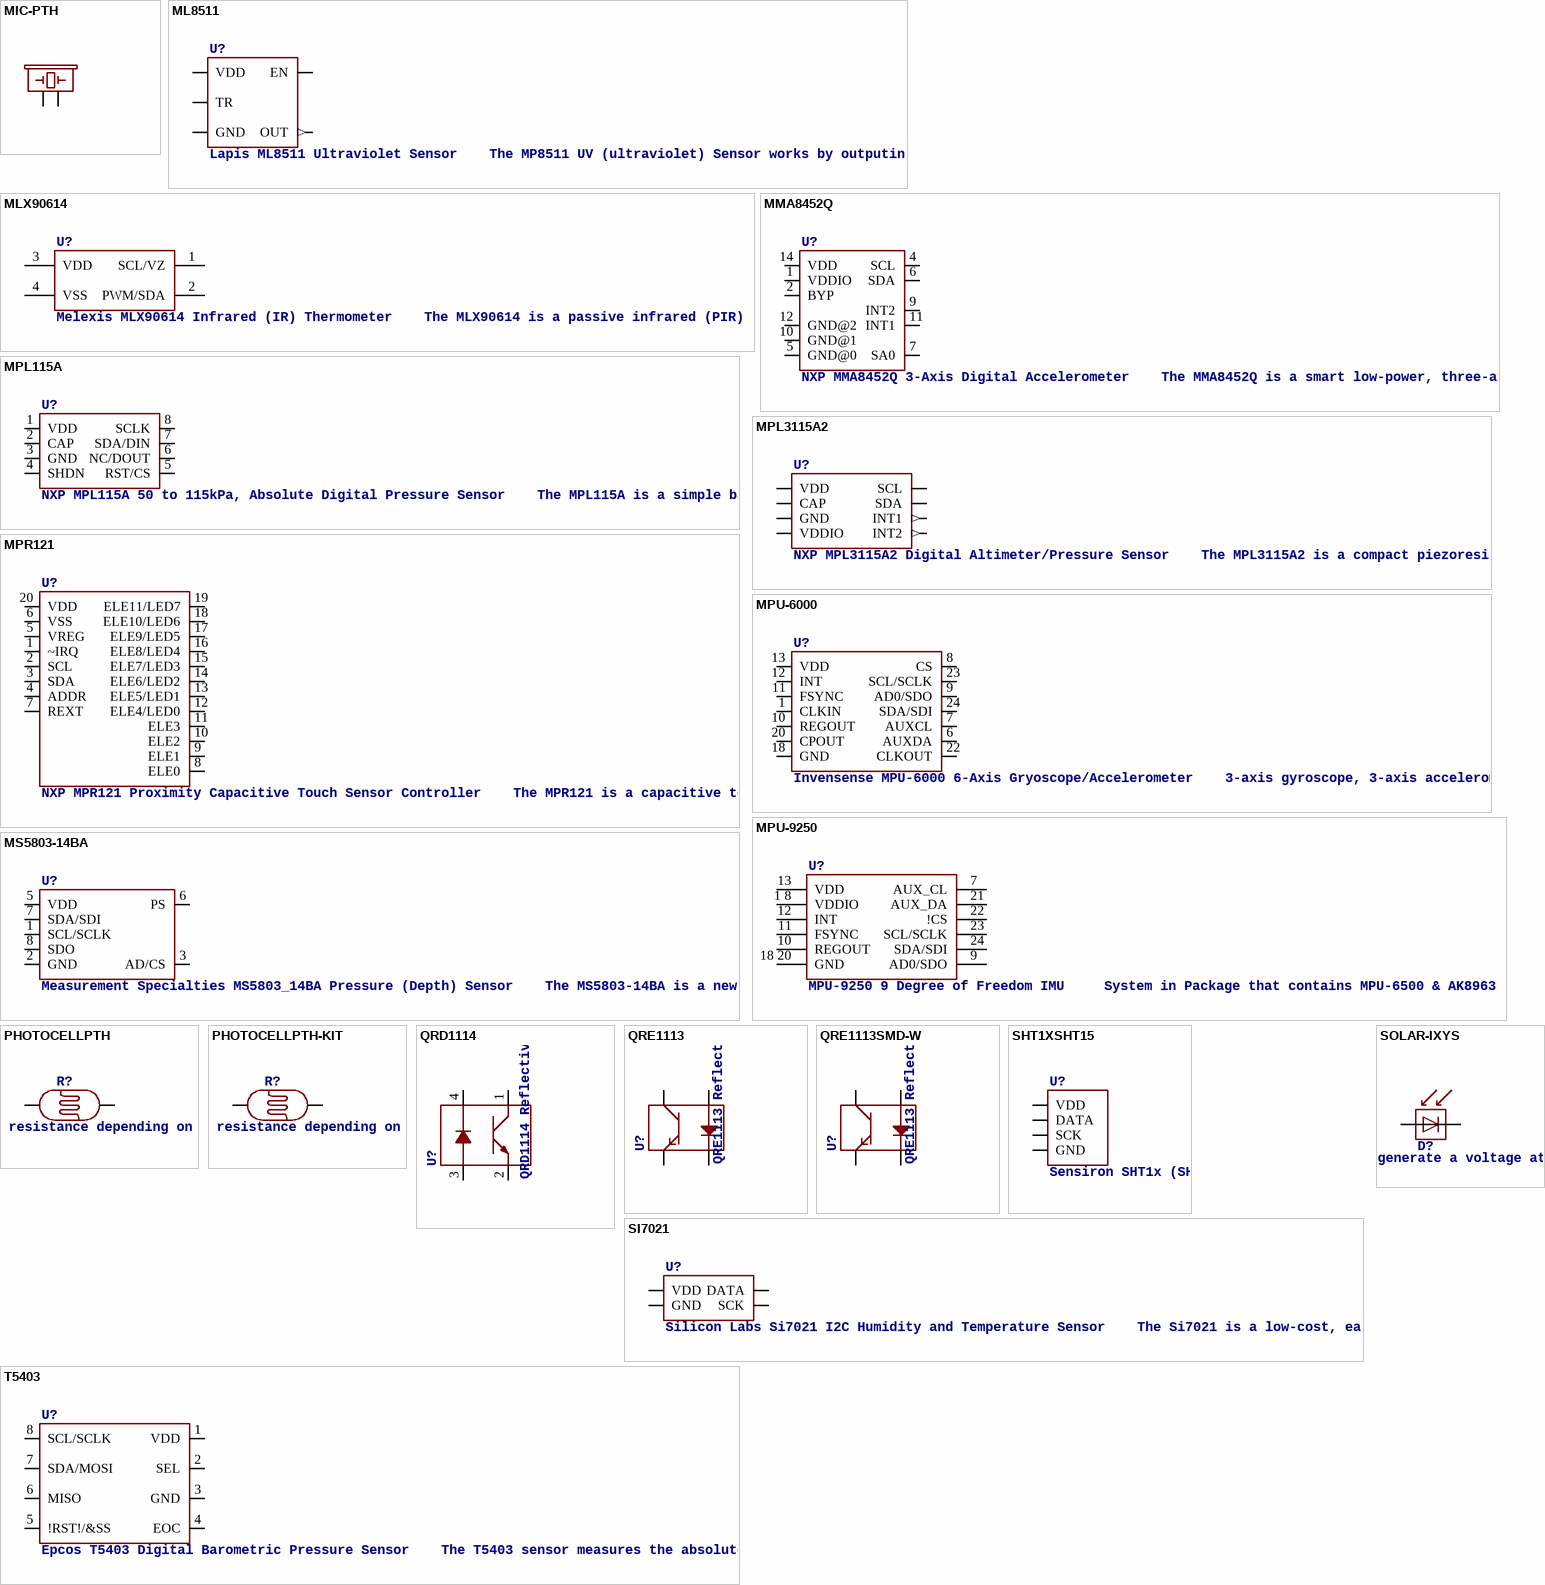
[diagram p3: symbols MIC-PTH to T5403]

## MIC-PTH
designator MK?, comment Microphone    Omni-directional electret microphones - one through-hole, the other SMD.   Datasheet (through-hole mic)   Datasheet (SMD mic) SparkFun Products  PTH Electret Microphone (COM-08635)  SparkFun Electret Microphone Breakout  (BOB-09964)  Digital Sandbox (DEV-12651)  SparkFun Sound Detector (SEN-12642)     SMD Microphone SparkFun Voice Recorder Breakout - ISD1932 (BOB-10653)
PROD_ID: COMP-08856; SF_ID: COM-08635
footprint MICROPHONE-PTH-9.7MM
pins: GND 2, OUT 1

## ML8511
designator U?, comment Lapis ML8511 Ultraviolet Sensor    The MP8511 UV (ultraviolet) Sensor works by outputing an analog signal in relation to the amount of UV light that’s detected. This sensor detects 280-390nm light most effectively. This is categorized as part of the UVB (burning rays) spectrum and most of the UVA (tanning rays) spectrum. It outputs a analog voltage that is linearly related to the measured UV intensity (mW/cm2).   Datasheet SparkFun Products  SparkFun UV Sensor Breakout - ML8511  (SEN-12705)
PROD_ID: IC-11927
footprint ML8511
pins: 4 EN, 5 GND (power), 7 VDD (power), 8 OUT (out), 10 TR (power)

## MLX90614
designator U?, comment Melexis MLX90614 Infrared (IR) Thermometer    The MLX90614 is a passive infrared (PIR) I2C temperature sensor.It is designed for non-contact temperature sensing. An internal 17-bit ADC and a powerful DSP contribute to the MLX90614’s high accuracy and resolution. It has a huge number of applications including body temperature measurment and movement detection.   Datasheet SparkFun Products  Infrared Thermometer - MLX90614 (SEN-09570)  SparkFun IR Thermometer Evaluation Board - MLX90614  (SEN-10740)
PROD_ID: COMP-09719; SF_ID: SEN-09570
footprint TO-39
pins: 1 SCL/VZ, 2 PWM/SDA, 3 VDD, 4 VSS

## MMA8452Q
designator U?, comment NXP MMA8452Q 3-Axis Digital Accelerometer    The MMA8452Q is a smart low-power, three-axis, capacitive MEMS accelerometer with 12 bits of resolution. This accelerometer is packed with embedded functions with flexible user programmable options, configurable to two interrupt pins.  Supply Voltage: 1.6-3.6V  Range: +/- 2g, 4g, 8g  Interface: I2C, 12-bit and 8-bit  ODR: 1.56 Hz - 800 Hz  Package: QFN-16       Datasheet SparkFun Products  SparkFun Triple Axis Accelerometer Breakout - MMA8452Q (SEN-12756)  SparkFun RedBot Sensor - Accelerometer (SEN-12589)
PROD_ID: IC-10769
footprint QFN-16
pins: 1 VDDIO, 2 BYP, 4 SCL, 5 GND@0, 6 SDA, 7 SA0, 9 INT2, 10 GND@1, 11 INT1, 12 GND@2, 14 VDD

## MPL115A
designator U?, comment NXP MPL115A 50 to 115kPa, Absolute Digital Pressure Sensor    The MPL115A is a simple barometer with digital output for cost-effective applications. It employs a MEMS pressure sensor with a conditioning integrated circuit to provide accurate pressure data. An integrated analog-to-digital converter (ADC) provides digitized temperature and pressure sensor outputs via either a serial peripheral interface (SPI) (MPL115A1) or I²C (MPL115A2) port.   Datasheet SparkFun Products  SparkFun Barometric Pressure Sensor Breakout - MPL115A1 (SEN-09721)  Barometric Pressure Sensor - MPL115A1 (SEN-09602)
PROD_ID: IC-09492; SF_ID: SEN-09602
footprint LGA-8
pins: 1 VDD, 2 CAP, 3 GND, 4 SHDN, 5 RST/CS, 6 NC/DOUT, 7 SDA/DIN, 8 SCLK

## MPL3115A2
designator U?, comment NXP MPL3115A2 Digital Altimeter/Pressure Sensor    The MPL3115A2 is a compact piezoresistive absolute pressure sensor with an I2C interface. MPL3115 has a wide operating range of 20kPa to 110 kPa, a range that covers all surface elevations on Earth. The fully internally compensated MEMS in conjunction with an embedded high resolution 24-bit equivalent ADC provide accurate pressure [Pascals] /altitude [meters] and temperature [degrees Celsius] data.   Datasheet SparkFun Products  SparkFun Altitude/Pressure Sensor Breakout - MPL3115A2 (SEN-11084)  SparkFun Weather Shield (DEV-12081)  SparkFun Photon Weather Shield (DEV-13630)
PROD_ID: IC-10869
footprint LGA-8
pins: 1 VDD (power), 2 CAP (power), 3 GND (power), 4 VDDIO (power), 5 INT2 (out), 6 INT1 (out), 7 SDA, 8 SCL

## MPR121
designator U?, comment NXP MPR121 Proximity Capacitive Touch Sensor Controller    The MPR121 is a capacitive touch sensor controller driven by an I2C interface. The chip can control up to twelve individual electrodes, as well as a simulated thirteenth electrode. The MPR121 also features eight LED driving pins. When these pins are not configured as electrodes, they may be used to drive LEDs.   Datasheet SparkFun Products  Capacitive Touch Sensor Controller - MPR121QR2 (COM-09604)  SparkFun Capacitive Touch Sensor Breakout - MPR121 (SEN-09695)  SparkFun Touch Shield (DEV-12013)  SparkFun Capacitive Touch Keypad - MPR121 (SEN-12017)
PROD_ID: IC-09490; SF_ID: COM-09604
footprint QFN-20
pins: 1 ~IRQ, 2 SCL, 3 SDA, 4 ADDR, 5 VREG, 6 VSS, 7 REXT, 8 ELE0, 9 ELE1, 10 ELE2, 11 ELE3, 12 ELE4/LED0, 13 ELE5/LED1, 14 ELE6/LED2, 15 ELE7/LED3, 16 ELE8/LED4, 17 ELE9/LED5, 18 ELE10/LED6, 19 ELE11/LED7, 20 VDD

## MPU-6000
designator U?, comment Invensense MPU-6000 6-Axis Gryoscope/Accelerometer    3-axis gyroscope, 3-axis accelerometer in a 4x4 package. The MPU-6000 is the world’s first 6-axis I²C MotionTracking device designed for the low power, low cost, and high performance requirements of smartphones, tablets and wearable sensors.   Datasheet SparkFun Products  MPU-6000 - Motion Processing Unit (SEN-11234)  SparkFun UDB5 - PIC UAV Development Board (GPS-11703)
PROD_ID: IC-11089; SF_ID: SEN-11234
footprint QFN-24-EP
pins: 1 CLKIN, 6 AUXDA, 7 AUXCL, 8 CS, 9 AD0/SDO, 10 REGOUT, 11 FSYNC, 12 INT, 13 VDD, 18 GND, 20 CPOUT, 22 CLKOUT, 23 SCL/SCLK, 24 SDA/SDI

## MPU-9250
designator U?, comment MPU-9250 9 Degree of Freedom IMU     System in Package that contains MPU-6500 & AK8963  NC pin 19. 2-6 & 14-17 not internally connected. May be used for PCB trace routing.  Datasheet   SparkFun Products: SparkFun 9DoF Razor IMU M0  SparkFun IMU Breakout - MPU-9250
PROD_ID: IC-13192
footprint QFN24-3X3
pins: 1 8 VDDIO, 7 AUX_CL, 9 AD0/SDO, 10 REGOUT, 11 FSYNC, 12 INT, 13 VDD, 18 20 GND, 21 AUX_DA, 22 !CS, 23 SCL/SCLK, 24 SDA/SDI

## MS5803-14BA
designator U?, comment Measurement Specialties MS5803_14BA Pressure (Depth) Sensor    The MS5803-14BA is a new generation of high resolution pressure sensors with SPI and I2C bus interface. It is optimized for depth measurement systems with a water depth resolution of 1cm and below. The sensor module includes a high linear pressure sensor and an ultra low power 24 bit ΔΣ ADC with internal factory calibrated coefficients. It provides a precise digital 24 Bit pressure and temperature value and different operation modes that allow the user to optimize for conversion speed and current consumption.   Datasheet SparkFun Products  SparkFun Pressure Sensor Breakout - MS5803-14BA (SEN-12909)
PROD_ID: IC-12111
footprint MS5803
pins: 1 SCL/SCLK, 2 GND, 3 AD/CS, 5 VDD, 6 PS, 7 SDA/SDI, 8 SDO

## PHOTOCELLPTH
designator R?, comment Photocell (Photodetector, Photo Resistor, CdS)    This is a very small light sensor. A photocell changes (also called a photodetector, photo resistor, CdS or photoconductive cell) resistance depending on the amount of light it is exposed to. These little sensors make great ambient light triggers (when light in the room turns on, do something).   Datasheet SparkFun Products  Mini Photocell (SEN-09088)
PROD_ID: COMP-09129; SF_ID: SEN-09088
footprint PHOTOCELL
pins: 1 P$1, 2 P$2

## PHOTOCELLPTH-KIT
designator R?, comment Photocell (Photodetector, Photo Resistor, CdS)    This is a very small light sensor. A photocell changes (also called a photodetector, photo resistor, CdS or photoconductive cell) resistance depending on the amount of light it is exposed to. These little sensors make great ambient light triggers (when light in the room turns on, do something).   Datasheet SparkFun Products  Mini Photocell (SEN-09088)
PROD_ID: COMP-09129; SF_ID: SEN-09088
footprint PHOTOCELL-KIT
pins: 1 P$1, 2 P$2

## QRD1114
designator U?, comment QRD1114 Reflective Proximity, Object Sensor    This sensor uses an infrared emitted diode combined with an infrared phototransistor to detect the reflected infrared signal. Ideal for sensing black-to-white transitions or can be used to detect nearby objects (.5-1cm).   Datasheet SparkFun Products  Optical Detector / Phototransistor - QRD1114 (SEN-00246)
PROD_ID: IC-09032; SF_ID: SEN-00246
footprint QRD1114
pins: 1 C, 2 E, 3 A, 4 K

## QRE1113
designator U?, comment QRE1113 Reflective Object Sensor    The QRE1113 is a small IR reflectance sensor. This sensor is often used in line following robots because, if it can sense if a surface is white or black.   There are four pins on the QRE1113 - two control the IR emitting LED while the other two are the collector and emitter of a phototransistor. The IR diode has a max forward current of 50mA and operates at 940nm.   Datasheet SparkFun Products  IR Reflectance Sensor - QRE1113 (COM-09542)  SparkFun Line Sensor Breakout - QRE1113 (Analog) (ROB-09453)  SparkFun Line Sensor Breakout - QRE1113 (Digital) (ROB-09454)  SparkFun RedBot Sensor - Line Follower (SEN-11769)  SparkFun RedBot Sensor - Wheel Encoder (SEN-12617)  SparkFun Line Follower Array (SEN-13582)
PROD_ID: IC-09357; SF_ID: COM-09542
footprint QRE1113
pins: 1 A, 2 K, 3 C, 4 E

## QRE1113SMD-W
designator U?, comment QRE1113 Reflective Object Sensor    The QRE1113 is a small IR reflectance sensor. This sensor is often used in line following robots because, if it can sense if a surface is white or black.   There are four pins on the QRE1113 - two control the IR emitting LED while the other two are the collector and emitter of a phototransistor. The IR diode has a max forward current of 50mA and operates at 940nm.   Datasheet SparkFun Products  IR Reflectance Sensor - QRE1113 (COM-09542)  SparkFun Line Sensor Breakout - QRE1113 (Analog) (ROB-09453)  SparkFun Line Sensor Breakout - QRE1113 (Digital) (ROB-09454)  SparkFun RedBot Sensor - Line Follower (SEN-11769)  SparkFun RedBot Sensor - Wheel Encoder (SEN-12617)  SparkFun Line Follower Array (SEN-13582)
PROD_ID: IC-09357; SF_ID: COM-09542
footprint QRE1113-W
pins: 1 A, 2 K, 3 C, 4 E

## SHT1XSHT15
designator U?, comment Sensiron SHT1x (SHT10, SHT11, SHT15) Digital Humidity Sensor    The SHT1x humidity sensor series (including SHT10, SHT11, and SHT15) is Sensirion’s family of surface-mountable relative humidity sensors. The humidity sensors integrate sensor elements plus signal processing on a tiny footprint and provide a fully calibrated digital output. A unique capacitive sensor element is used for measuring relative humidity, while temperature is measured by a band-gap sensor.   Datasheet SparkFun Products  Humidity and Temperature Sensor - SHT15 (COM-08227)  SparkFun Humidity and Temperature Sensor Breakout - SHT15 (SEN-13683)
PROD_ID: IC-08303; SF_ID: COM-08227
footprint SHT1X
pins: 1 GND (power), 2 DATA, 3 SCK, 4 VDD (power)

## SI7021
designator U?, comment Silicon Labs Si7021 I2C Humidity and Temperature Sensor    The Si7021 is a low-cost, easy-to-use, highly accurate, digital humidity and temperature sensor. This sensor is ideal for environmental sensing and data logging and perfect for build a weather stations or humidor control system. All you need are two lines for I2C communication, and you’ll have relative humidity readings and very accurate temperature readings as a bonus!   Datasheet SparkFun Products  SparkFun Humidity and Temperature Sensor Breakout - Si7021 (SEN-13763)  SparkFun Blynk Board - ESP8266 (WRL-13794)
PROD_ID: IC-13093
footprint DFN-6-3X3-SI7021
pins: DATA, GND (power), SCK, VDD (power)

## SOLAR-IXYS
designator D?, comment IXYS CPC1822 4V Output Solar Cell    The CPC1822 is a monolithic photovoltaic string of solar cells with switching circuitry. When operating in sunlight or a bright artificial light environment the optical energy will activate the cell array and generate a voltage at the output. The solar cells are capable of generating a floating source voltage and current sufficient to drive and power CMOS ICs, logic gates and/or provide “trickle charge” for battery applications.   Datasheet SparkFun Products  Miniature Solar Cell - CPC1822 (PRT-09962)
SF_ID: PRT-09962
footprint SOIC-8
pins: 5 C, 8 A

## T5403
designator U?, comment Epcos T5403 Digital Barometric Pressure Sensor    The T5403 sensor measures the absolute pressure of the air around. This pressure varies with both the weather and altitude. Depending on how you interpret the data, you can monitor changes in the weather, measure altitude, or any other tasks that require an accurate pressure reading.   Datasheet SparkFun Products  SparkFun Barometric Sensor Breakout - T5403 (SEN-12039)
PROD_ID: IC-11772
footprint T5403
pins: 1 VDD, 2 SEL, 3 GND, 4 EOC, 5 !RST!/&SS, 6 MISO, 7 SDA/MOSI, 8 SCL/SCLK

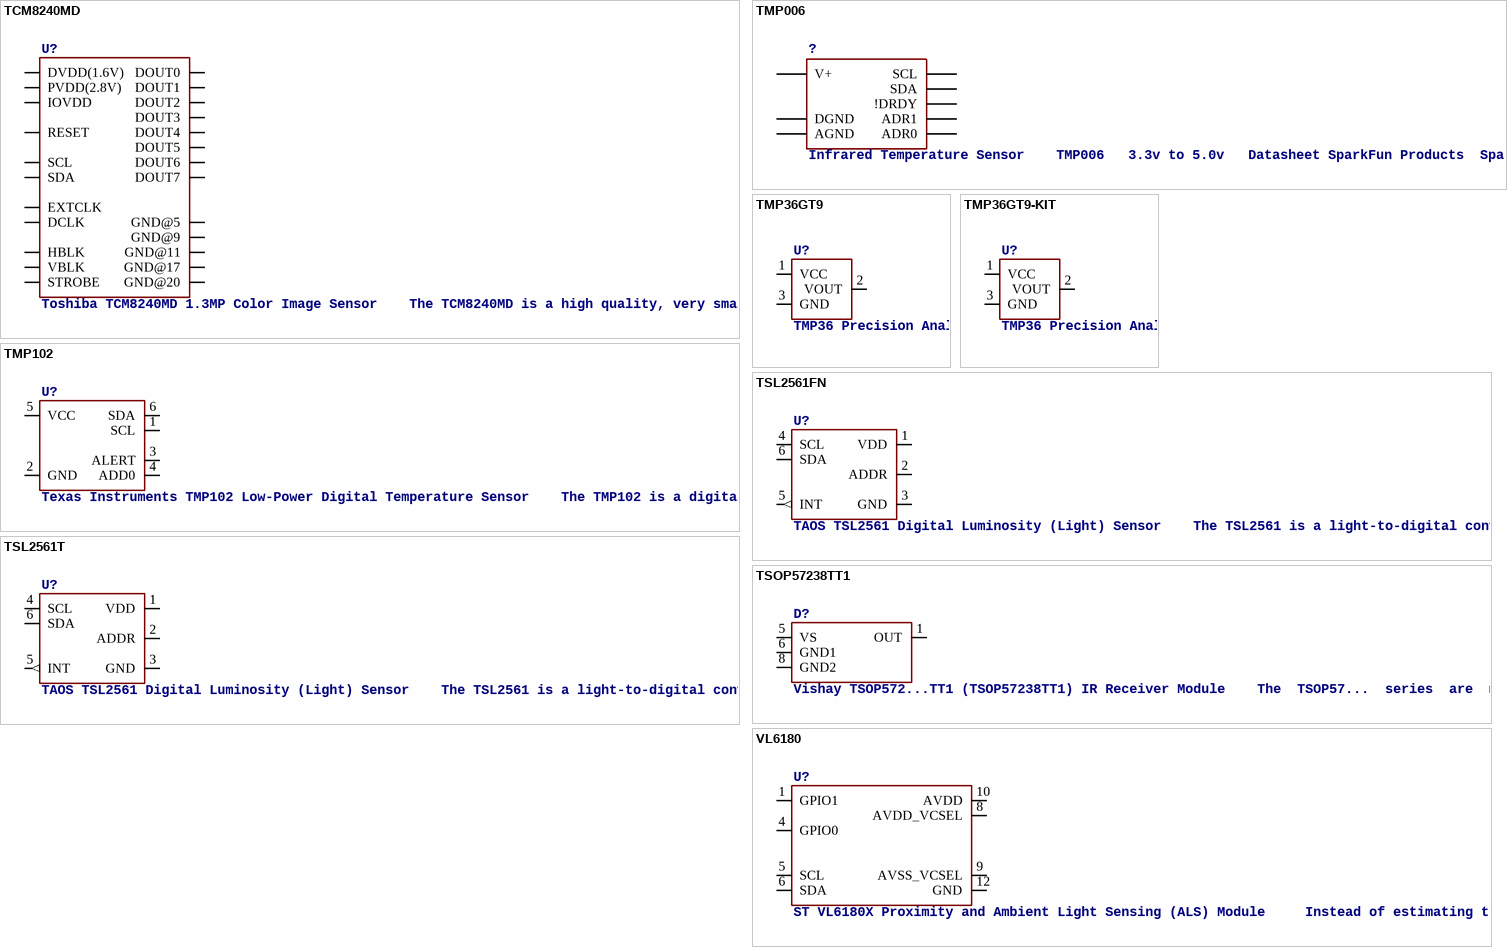
[diagram p4: symbols TCM8240MD to VL6180]

## TCM8240MD
designator U?, comment Toshiba TCM8240MD 1.3MP Color Image Sensor    The TCM8240MD is a high quality, very small 1.3 mega-pixel color camera from Toshiba with the standard data+I2C interface. The nice thing is that we have a good supplier of these cameras, so they should be around for some time. This camera is also unique in that it offers on-board JPEG compression.   Datasheet SparkFun Products  CMOS Camera - 1300x1040 (SEN-08668)  TCM8240 Camera Breakout (BOB-09504)
PROD_ID: COMP-09354; SF_ID: SEN-08668
footprint TCM8240MD
pins: P$1 DOUT3, P$2 DOUT2, P$3 DOUT1, P$4 DOUT0, P$5 GND@5, P$6 PVDD(2.8V), P$7 RESET, P$8 SCL, P$9 GND@9, P$10 SDA, P$11 GND@11, P$12 DVDD(1.6V), P$13 EXTCLK, P$14 STROBE, P$15 HBLK, P$16 VBLK, P$17 GND@17, P$18 IOVDD, P$19 DCLK, P$20 GND@20, P$21 DOUT7, P$22 DOUT6, P$23 DOUT5, P$24 DOUT4

## TMP006
designator ?, comment Infrared Temperature Sensor    TMP006   3.3v to 5.0v   Datasheet SparkFun Products  SparkFun Infrared Temperature Breakout - TMP006 (SEN-11859)
PROD_ID: IC-11632
footprint BGA8DS
pins: A1 DGND, A2 AGND, A3 V+, B1 ADR1, B3 SCL, C1 ADR0, C2 !DRDY, C3 SDA

## TMP36GT9
designator U?, comment TMP36 Precision Analog &deg;C Temperature Sensor    The TMP36 is a low voltage, precision centigrade temperature sensor. It provides a voltage output that is linearly proportional to the Celsius temperature. It also doesn’t require any external calibration to provide typical accuracies of ±1°C at +25°C and ±2°C over the −40°C to +125°C temperature range. We like it because it’s so easy to use: Just give the device a ground and 2.7 to 5.5 VDC and read the voltage on the Vout pin. The output voltage can be converted to temperature easily using the scale factor of 10 mV/°C.   Datasheet SparkFun Products  Temperature Sensor - TMP36 (SEN-10988)  SparkFun Danger Shield (DEV-11649)
PROD_ID: IC-09880; SF_ID: SEN-10988
footprint TO-92
pins: 1 VCC, 2 VOUT, 3 GND

## TMP36GT9-KIT
designator U?, comment TMP36 Precision Analog &deg;C Temperature Sensor    The TMP36 is a low voltage, precision centigrade temperature sensor. It provides a voltage output that is linearly proportional to the Celsius temperature. It also doesn’t require any external calibration to provide typical accuracies of ±1°C at +25°C and ±2°C over the −40°C to +125°C temperature range. We like it because it’s so easy to use: Just give the device a ground and 2.7 to 5.5 VDC and read the voltage on the Vout pin. The output voltage can be converted to temperature easily using the scale factor of 10 mV/°C.   Datasheet SparkFun Products  Temperature Sensor - TMP36 (SEN-10988)  SparkFun Danger Shield (DEV-11649)
PROD_ID: IC-09880; SF_ID: SEN-10988
footprint TO-92-KIT
pins: 1 VCC, 2 VOUT, 3 GND

## TMP102
designator U?, comment Texas Instruments TMP102 Low-Power Digital Temperature Sensor    The TMP102 is a digital sensor (I2C a.k.a. TWI), has a resolution of 0.0625°C, and is accurate up to 0.5°C. This is a very handy sensor that requires a very low-current.   Datasheet SparkFun Products  SparkFun Digital Temperature Sensor Breakout - TMP102 (SEN-11931)
PROD_ID: IC-09303
footprint SOT563
pins: 1 SCL, 2 GND, 3 ALERT, 4 ADD0, 5 VCC, 6 SDA

## TSL2561FN
designator U?, comment TAOS TSL2561 Digital Luminosity (Light) Sensor    The TSL2561 is a light-to-digital converter that transform light intensity to a digital signal output via I2C interface. The device combines one broadband photodiode (visible plus infrared) and one infrared-responding photodiode on a single CMOS integrated circuit capable of providing a near-photopic response over an effective 20-bit dynamic range (16-bit resolution). Two integrating ADCs convert the photodiode currents to a digital output that represents the irradiance measured on each channel. This digital output can be input to a microprocessor where illuminance (ambient light level) in lux is derived using an empirical formula to approximate the human eye response. The TSL2561 device supports a traditional level style interrupt that remains asserted until the firmware clears it.   Datasheet SparkFun Products  SparkFun Luminosity Sensor Breakout - TSL2561 (SEN-12055)
PROD_ID: IC-11791
footprint DFN-6-2X2
pins: 1 VDD (power), 2 ADDR, 3 GND (power), 4 SCL, 5 INT (out), 6 SDA

## TSL2561T
designator U?, comment TAOS TSL2561 Digital Luminosity (Light) Sensor    The TSL2561 is a light-to-digital converter that transform light intensity to a digital signal output via I2C interface. The device combines one broadband photodiode (visible plus infrared) and one infrared-responding photodiode on a single CMOS integrated circuit capable of providing a near-photopic response over an effective 20-bit dynamic range (16-bit resolution). Two integrating ADCs convert the photodiode currents to a digital output that represents the irradiance measured on each channel. This digital output can be input to a microprocessor where illuminance (ambient light level) in lux is derived using an empirical formula to approximate the human eye response. The TSL2561 device supports a traditional level style interrupt that remains asserted until the firmware clears it.   Datasheet SparkFun Products  SparkFun Luminosity Sensor Breakout - TSL2561 (SEN-12055)
footprint TMB-6
pins: 1 VDD (power), 2 ADDR, 3 GND (power), 4 SCL, 5 INT (out), 6 SDA

## TSOP57238TT1
designator D?, comment Vishay TSOP572...TT1 (TSOP57238TT1) IR Receiver Module    The  TSOP57...  series  are  miniaturized  SMD  IR  receiver  modules  for  infrared  remote  control  systems.  A  PIN  diode  and  a  preamplifier  are  assembled  on  a  PCB,  the  epoxy  package contains an IR filter. The demodulated output signal can be directly connected to a microprocessor for decoding.   Datasheet SparkFun Products   Not currently in a SparkFun Assembly
PROD_ID: COMP-11990
footprint TSOP572
pins: 1 OUT, 5 VS, 6 GND1, 8 GND2

## VL6180
designator U?, comment ST VL6180X Proximity and Ambient Light Sensing (ALS) Module     Instead of estimating the distance by measuring the amount of light reflected back from the object (which is significantly influenced by color and surface), the VL6180 precisely measures the time the light takes to travel to the nearest object and reflect back to the sensor (Time-of-Flight). Combining an IR emitter, a range sensor and an ambient light sensor in a three-in-one ready-to-use reflowable package, the VL6180 is easy to integrate and saves the end-product makers the long and costly optical and mechanical design optimizations.   Datasheet SparkFun Products  SparkFun ToF Range Finder Breakout - VL6180 (SEN-12784)  SparkFun ToF Range Finder Sensor - VL6180 (SEN-12785)
PROD_ID: IC-12007
footprint VL6180
pins: 1 GPIO1, 4 GPIO0, 5 SCL, 6 SDA, 8 AVDD_VCSEL, 9 AVSS_VCSEL, 10 AVDD, 12 GND